# EAGLE library part BC847DS (library nxp_60_1_1)
NPN/NPN general-purpose transistor pair in a small SOT457 (SC-74) Surface-Mounted Device (SMD) plastic package. AAL Eindhoven MK
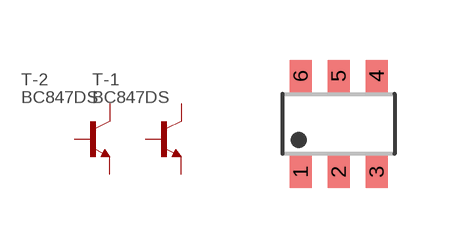
[diagram p61: symbol with the pads of SOT457; footprint SOT457]

Designator prefix T; gates -1=NPN -2=NPN

## BC847DS  [SOT457]
1  -1:E  pas
2  -1:B  pas
3  -2:C  pas
4  -2:E  pas
5  -2:B  pas
6  -1:C  pas

## Footprint SOT457 (pad centres in mm)
SOT457 TSOP6: Plastic surface-mounted package; 6 lead JEIDA: SC73 A.K.A. SOT23-6
smd 0.55 x 0.8: 1 -0.95,-1.2; 2 0,-1.2; 3 0.95,-1.2; 4 0.95,1.2; 5 0,1.2; 6 -0.95,1.2